# EAGLE library part MA06S (library con-amp-quick)
AMP QUICK CONNECTOR
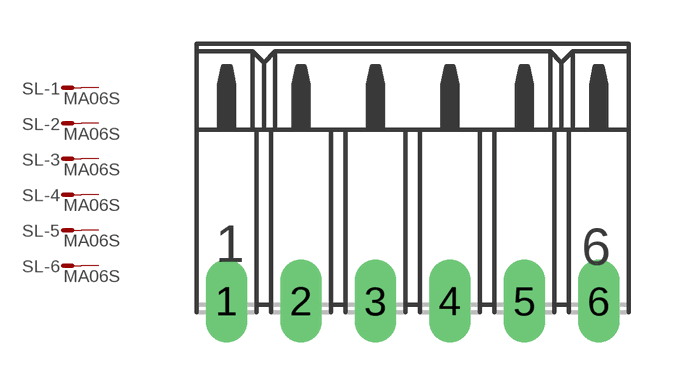
[diagram p15: symbol with the pads of 06PA; footprint 06PA]

Designator prefix SL; gates -1=M -2=M -3=M -4=M -5=M -6=M

## MA06S (OC_FARNELL: unknown; OC_NEWARK: unknown)  [06PA]
1  -1:S  pas
2  -2:S  pas
3  -3:S  pas
4  -4:S  pas
5  -5:S  pas
6  -6:S  pas

## Footprint 06PA (pad centres in mm)
AMP QUICK CONNECTOR
drill 0.914 long: 1 -6.35,0; 2 -3.81,0; 3 -1.27,0; 4 1.27,0; 5 3.81,0; 6 6.35,0